# Altium schematic symbol library APH1040T100M.SchLib: 1 symbol
Pins are listed as number, name and electrical type; pins without a type are passive.

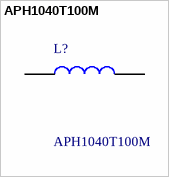
[diagram p0: symbol APH1040T100M]

## APH1040T100M
designator L?
7.04A 10uH Molding Choke 20% 7.06A SMD,11x10mm Power Inductors ROHS; Manufacturer_Name: APV; Geometry.Height: 4mm; Manufacturer_Part_Number: APH1040T100M; Mouser Part Number: *; Mouser Price/Stock: *; Arrow Part Number: *; Arrow Price/Stock: *; Datasheet Link: https://www.lcsc.com/datasheet/lcsc_datasheet_2301121209_APV-APH0530T1R5M_C5349678.pdf
footprint APH1040T100M
pins: 1, 2